# Altium footprint library LTC2644CMS-L12_PBF.PcbLib: 1 footprints
Each footprint in its own frame and in the unit in brackets; x right, y up, seen from the top. Pads: shape width x height; smd on the part's side, far side on the other; paste and mask are expansions set on the pad; w line width, h text height; cw(c..) or ccw(c..) is an arc to the next point about the centre after c.
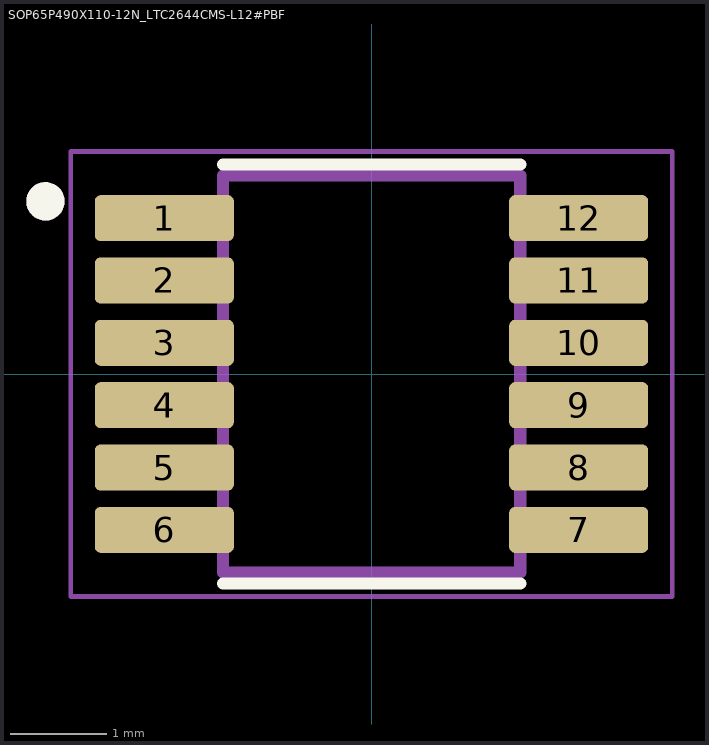
[diagram p0: the footprint, top view; thin cyan lines are the x and y axes]

## SOP65P490X110-12N_LTC2644CMS-L12#PBF [mm]
pads (12):
  rrect25% 1.45x0.48 smd: 1(-2.16,1.625) 2(-2.16,0.975) 3(-2.16,0.325) 4(-2.16,-0.325) 5(-2.16,-0.975) 6(-2.16,-1.625) 7(2.16,-1.625) 8(2.16,-0.975) 9(2.16,-0.325) 10(2.16,0.325) 11(2.16,0.975) 12(2.16,1.625)
Top Overlay:
  circle w0.2: c-3.4,1.8 r0.1
  lines w0.127: -1.55,-2.185 1.55,-2.185 ; -1.55,2.185 1.55,2.185
Mechanical 13:
  circle w0.2: c-3.4,1.8 r0.1
  lines w0.127: -1.55,-2.07 1.55,-2.07 1.55,2.07 -1.55,2.07 -1.55,-2.07
Mechanical 15:
  lines w0.05: -3.135,-2.32 3.135,-2.32 3.135,2.32 -3.135,2.32 -3.135,-2.32